# Altium footprint library USB4110-GF-A.PcbLib: 1 footprints
Each footprint in its own frame and in the unit in brackets; x right, y up, seen from the top. Pads: shape width x height; smd on the part's side, far side on the other; paste and mask are expansions set on the pad; w line width, h text height; cw(c..) or ccw(c..) is an arc to the next point about the centre after c.
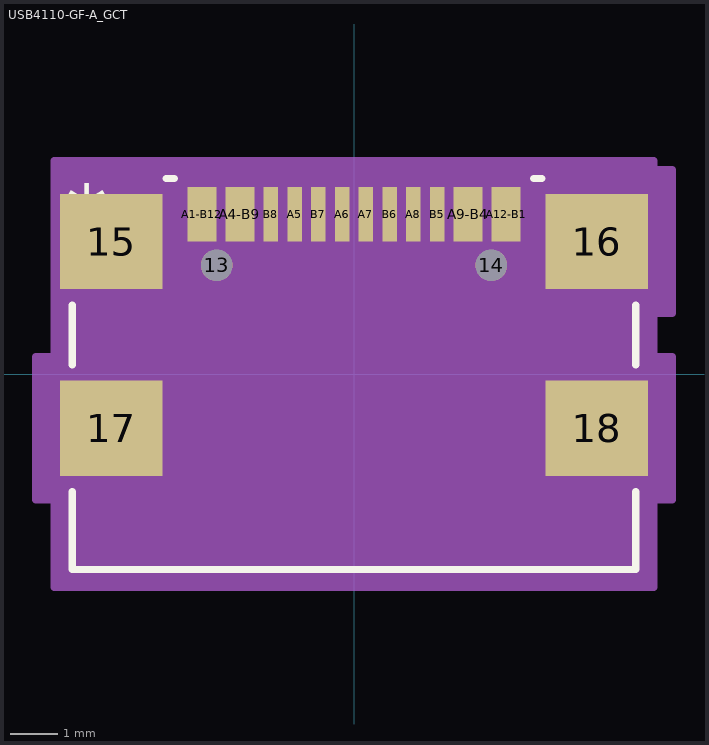
[diagram p0: the footprint, top view; thin cyan lines are the x and y axes]

## USB4110-GF-A_GCT [mil]
pads (18):
  round 26 hole 26 unplated: 13(-113.78,90.07) 14(113.78,90.07)
  rect 85x79 smd: 15(-201.18,109.76) 16(201.18,109.76) 17(-201.18,-44.97) 18(201.18,-44.97)
  rect 24x45 smd paste+0 mask+0: A1-B12(-125.98,132.39) A4-B9(-94.49,132.39) A9-B4(94.49,132.39) A12-B1(125.98,132.39)
  rect 12x45 smd paste+0 mask+0: A5(-49.21,132.39) A6(-9.84,132.39) A7(9.84,132.39) A8(49.21,132.39) B5(68.9,132.39) B6(29.53,132.39) B7(-29.53,132.39) B8(-68.9,132.39)
Top Overlay:
  lines w6: -233.5,-97.57 -233.5,-162 233.5,-162 233.5,-97.57 ; -233.5,7.63 -233.5,57.16 ; -155.65,162 -148.99,162 ; 148.99,162 155.65,162 ; 233.5,7.63 233.5,57.16
  text "*" at -238.48,107.39 h50
Mechanical 5:
  region: -243.5,172 243.5,172 243.5,-172 -243.5,-172
Mechanical 13:
  lines w1: 0,157 0,157 ; 0,157 0,157 ; 0,157 0,157 ; 0,157 0,157 ; -228.5,-157 228.5,-157 228.5,157 -228.5,157 -228.5,-157
  text "*" at -238.48,107.39 h50
Mechanical 15:
  region: -263.68,-104.47 -248.5,-104.47 -248.5,-177 248.5,-177 248.5,-104.47 263.68,-104.47 263.68,14.53 248.5,14.53 248.5,50.26 263.68,50.26 263.68,169.26 248.5,169.26 248.5,177 -248.5,177 -248.5,14.53 -263.68,14.53
  lines w6: -263.68,-104.47 -248.5,-104.47 -248.5,-177 248.5,-177 248.5,-104.47 263.68,-104.47 263.68,14.53 248.5,14.53 248.5,50.26 263.68,50.26 263.68,169.26 248.5,169.26 248.5,177 -248.5,177 -248.5,14.53 -263.68,14.53 -263.68,-104.47
3D body: height 10, standoff 0, extent 0,0 10,10